# Altium footprint library HSOP36-450-06.PcbLib: 1 footprints
Each footprint in its own frame and in the unit in brackets; x right, y up, seen from the top. Pads: shape width x height; smd on the part's side, far side on the other; paste and mask are expansions set on the pad; w line width, h text height; cw(c..) or ccw(c..) is an arc to the next point about the centre after c.
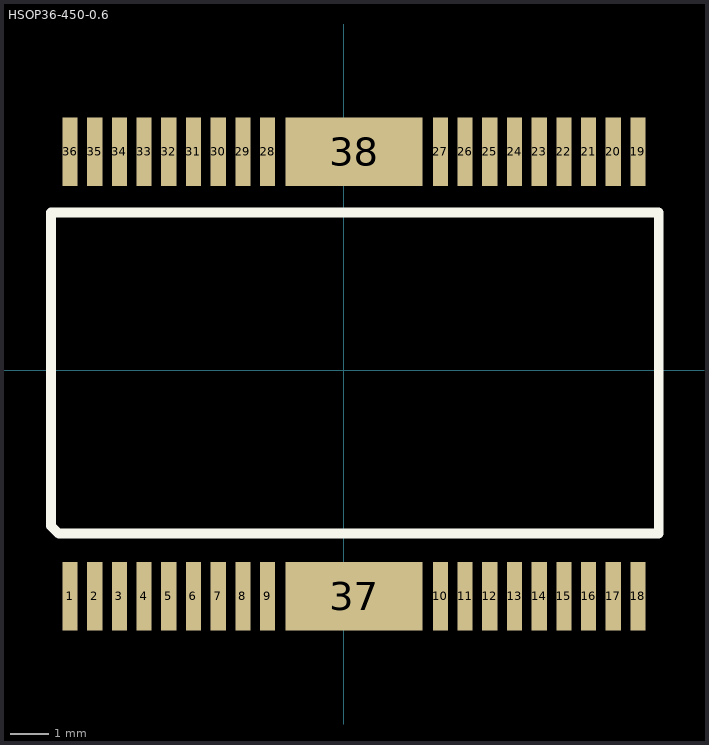
[diagram p0: the footprint, top view; thin cyan lines are the x and y axes]

## HSOP36-450-0.6 [mm]
pads (38):
  rect 0.4x1.8 smd: 1(-7.2,-5.95) 2(-6.55,-5.95) 3(-5.9,-5.95) 4(-5.25,-5.95) 5(-4.6,-5.95) 6(-3.95,-5.95) 7(-3.3,-5.95) 8(-2.65,-5.95) 9(-2,-5.95) 10(2.55,-5.95) 11(3.2,-5.95) 12(3.85,-5.95) 13(4.5,-5.95) 14(5.15,-5.95) 15(5.8,-5.95) 16(6.45,-5.95) 17(7.1,-5.95) 18(7.75,-5.95) 19(7.75,5.75) 20(7.1,5.75) 21(6.45,5.75) 22(5.8,5.75) 23(5.15,5.75) 24(4.5,5.75) 25(3.85,5.75) 26(3.2,5.75) 27(2.55,5.75) 28(-2,5.75) 29(-2.65,5.75) 30(-3.3,5.75) 31(-3.95,5.75) 32(-4.6,5.75) 33(-5.25,5.75) 34(-5.9,5.75) 35(-6.55,5.75) 36(-7.2,5.75)
  rect 3.6x1.8 smd: 37(0.275,-5.95) 38(0.275,5.75)
Top Overlay:
  lines w0.254: -7.7,-4.1 -7.7,4.15 8.3,4.15 8.3,-4.3 -7.5,-4.3 -7.7,-4.1
3D body "SOP65P1220X275-48N.step": height 2.75, standoff 0, extent -7.97,-6.19 8.53,5.99